# EAGLE library part 3_BIDIR_LED_RIGHT_ANGLE (library LEDs)
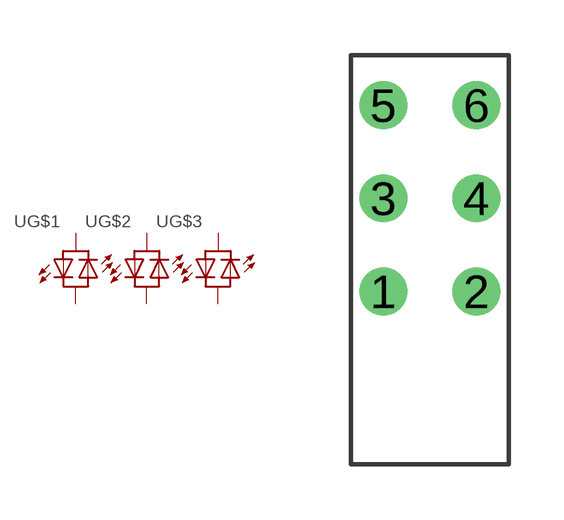
[diagram p0: symbol with the pads of RIGHT_ANGLE_3_LEDS; footprint RIGHT_ANGLE_3_LEDS]

Designator prefix -; gates G$1=BICOLOR_LED G$2=BICOLOR_LED G$3=BICOLOR_LED

## 3_BIDIR_LED_RIGHT_ANGLE  [RIGHT_ANGLE_3_LEDS]
1  G$1:2  pas
2  G$1:1  pas
3  G$2:2  pas
4  G$2:1  pas
5  G$3:2  pas
6  G$3:1  pas

## Footprint RIGHT_ANGLE_3_LEDS (pad centres in mm)
drill 0.8: 1 -1.27,0; 2 1.27,0; 3 -1.27,2.54; 4 1.27,2.54; 5 -1.27,5.08; 6 1.27,5.08